# EAGLE library part TDK-ICM30630 (library FaBo-Axis)
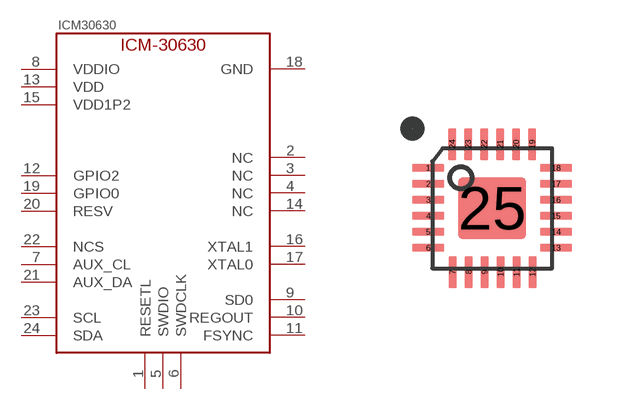
[diagram p7: symbol with the pads of TDK-ICM30630; footprint TDK-ICM30630]

Designator prefix ICM30630

## TDK-ICM30630  [TDK-ICM30630]
1  RESETL
2  NC
3  NC
4  NC
5  SWDIO
6  SWDCLK
7  AUX_CL
8  VDDIO
9  SD0
10  REGOUT
11  FSYNC
12  GPIO2
13  VDD
14  NC
15  VDD1P2
16  XTAL1
17  XTAL0
18  GND
19  GPIO0
20  RESV
21  AUX_DA
22  NCS
23  SCL
24  SDA

## Footprint TDK-ICM30630 (pad centres in mm)
smd 0.8 x 0.2: 1 -1.6,1.01; 2 -1.6,0.61; 3 -1.6,0.21; 4 -1.6,-0.19; 5 -1.6,-0.59; 6 -1.6,-0.99; 13 1.6,-0.99; 14 1.6,-0.59; 15 1.6,-0.19; 16 1.6,0.21; 17 1.6,0.61; 18 1.6,1.01
smd 0.2 x 0.8: 7 -0.99,-1.6; 8 -0.59,-1.6; 9 -0.19,-1.6; 10 0.21,-1.6; 11 0.61,-1.6; 12 1.01,-1.6; 19 1,1.6; 20 0.6,1.6; 21 0.2,1.6; 22 -0.2,1.6; 23 -0.6,1.6; 24 -1,1.6
smd 1.7 x 1.55: 25 0,0